# Altium schematic symbol library BQ24210DQCR.SchLib: 1 symbol
Pins are listed as number, name and electrical type; pins without a type are passive.

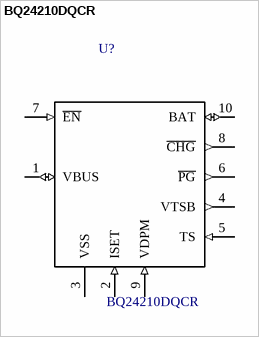
[diagram p0: symbol BQ24210DQCR]

## BQ24210DQCR
designator U?
Charger IC Lithium-Ion 10-WSON _3x2_; MF: Texas Instruments; MP: BQ24210DQCT; SnapEDA_Link: https://www.snapeda.com/parts/BQ24210DQCR/Texas%20Instruments/view-part/473762/?ref=snap; Package: WFDFN-10 Texas Instruments; Availability: Unavailable; Value: *; Price: 2.95; Digikey link: https://www.digikey.com/product-detail/en/texas-instruments/BQ24210DQCT/296-28738-1-ND/2657679; Digikey part number: 296-28738-1-ND; Datasheet link: http://www.ti.com/lit/ds/symlink/bq24210.pdf
footprint *SON50P200X300X80-11N
pins: 1 VBUS (io), 2 ISET (in), 3 VSS, 4 VTSB (out), 5 TS (in), 6 ~{PG} (out), 7 ~{EN} (in), 8 ~{CHG} (out), 9 VDPM (in), 10 BAT (io)